# Altium integrated library MF52A1103F3380.IntLib: 1 symbol
Pins are listed as number, name and electrical type; pins without a type are passive.

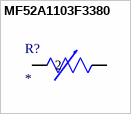
[diagram p0: symbol MF52A1103F3380]

## MF52A1103F3380
designator R?
THERMISTOR NTC 10KOHM 3380K BEAD; MF: Cantherm; MP: MF52A1103F3380; SnapEDA_Link: https://www.snapeda.com/parts/MF52A1103F3380/Cantherm/view-part/?ref=snap; Package: Bead Cantherm; Value: *; Check_prices: https://www.snapeda.com/parts/MF52A1103F3380/Cantherm/view-part/?ref=eda
footprint TRES_MF52-A_CTM
pins: 1, 2